# EAGLE library part JTAG_8P_ (library ATMEL)
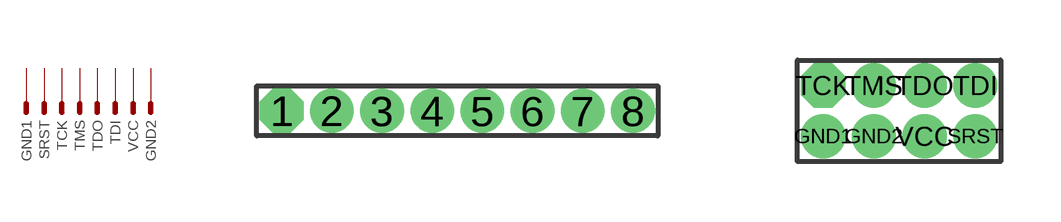
[diagram p10: symbol with the pads of HEADER_8_50; footprints HEADER_8_50, HEADER2X4_50]

Designator prefix -

## JTAG_8P_1X8  [HEADER_8_50]
1  GND1
2  SRST
3  TCK
4  TMS
5  TDO
6  TDI
7  VCC
8  GND2

## JTAG_8P_2X4  [HEADER2X4_50]
GND1  GND1
GND2  GND2
SRST  SRST
TCK  TCK
TDI  TDI
TDO  TDO
TMS  TMS
VCC  VCC

## Footprint HEADER_8_50 (pad centres in mm)
drill 0.6 pad 1.016 octagon: 1 0,0
drill 0.6 pad 1.016 round: 2 1.27,0; 3 2.54,0; 4 3.81,0; 5 5.08,0; 6 6.35,0; 7 7.62,0; 8 8.89,0

## Footprint HEADER2X4_50 (pad centres in mm)
drill 0.6 round: GND1 0,0; SRST 3.81,0; TDO 2.54,1.27; TMS 1.27,1.27; VCC 2.54,0
drill 0.6 pad 1.016 round: GND2 1.27,0; TDI 3.81,1.27
drill 0.6 octagon: TCK 0,1.27